# EAGLE library part L80-M39 (library L80-M39-QUECTEL)
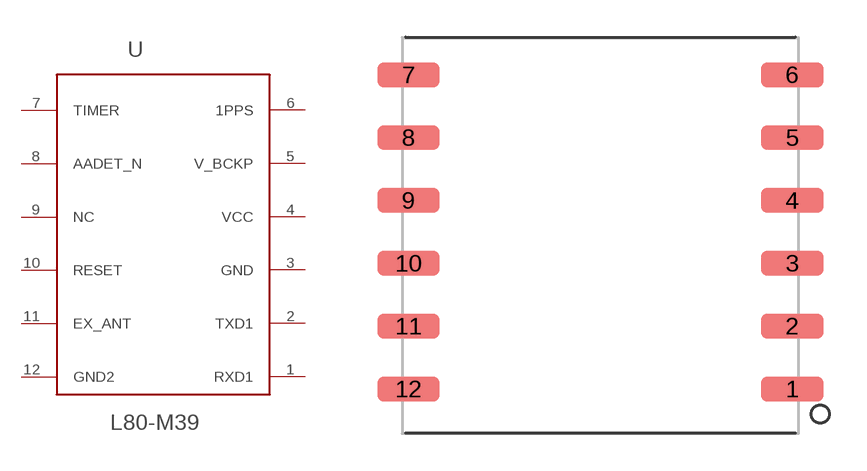
[diagram p0: symbol with the pads of 12-SMD; footprint 12-SMD]

Designator prefix -

## L80-M39  [12-SMD]
1  RXD1  in
2  TXD1  in
3  GND  pas
4  VCC  pwr
5  V_BCKP  pwr
6  1PPS  pas
7  TIMER  pas
8  AADET_N  pas
9  NC  nc
10  RESET  pas
11  EX_ANT  pas
12  GND2  pas

## Footprint 12-SMD (pad centres in mm)
smd 2.5 x 1: 1 7.75,-6.35; 2 7.75,-3.81; 3 7.75,-1.27; 4 7.75,1.27; 5 7.75,3.81; 6 7.75,6.35; 7 -7.75,6.35; 8 -7.75,3.81; 9 -7.75,1.27; 10 -7.75,-1.27; 11 -7.75,-3.81; 12 -7.75,-6.35